# Altium footprint library moded_footprint.PcbLib: 177 footprints (part 11 of 12)
Each footprint in its own frame and in the unit in brackets; x right, y up, seen from the top. Pads: shape width x height; smd on the part's side, far side on the other; paste and mask are expansions set on the pad; w line width, h text height; cw(c..) or ccw(c..) is an arc to the next point about the centre after c.
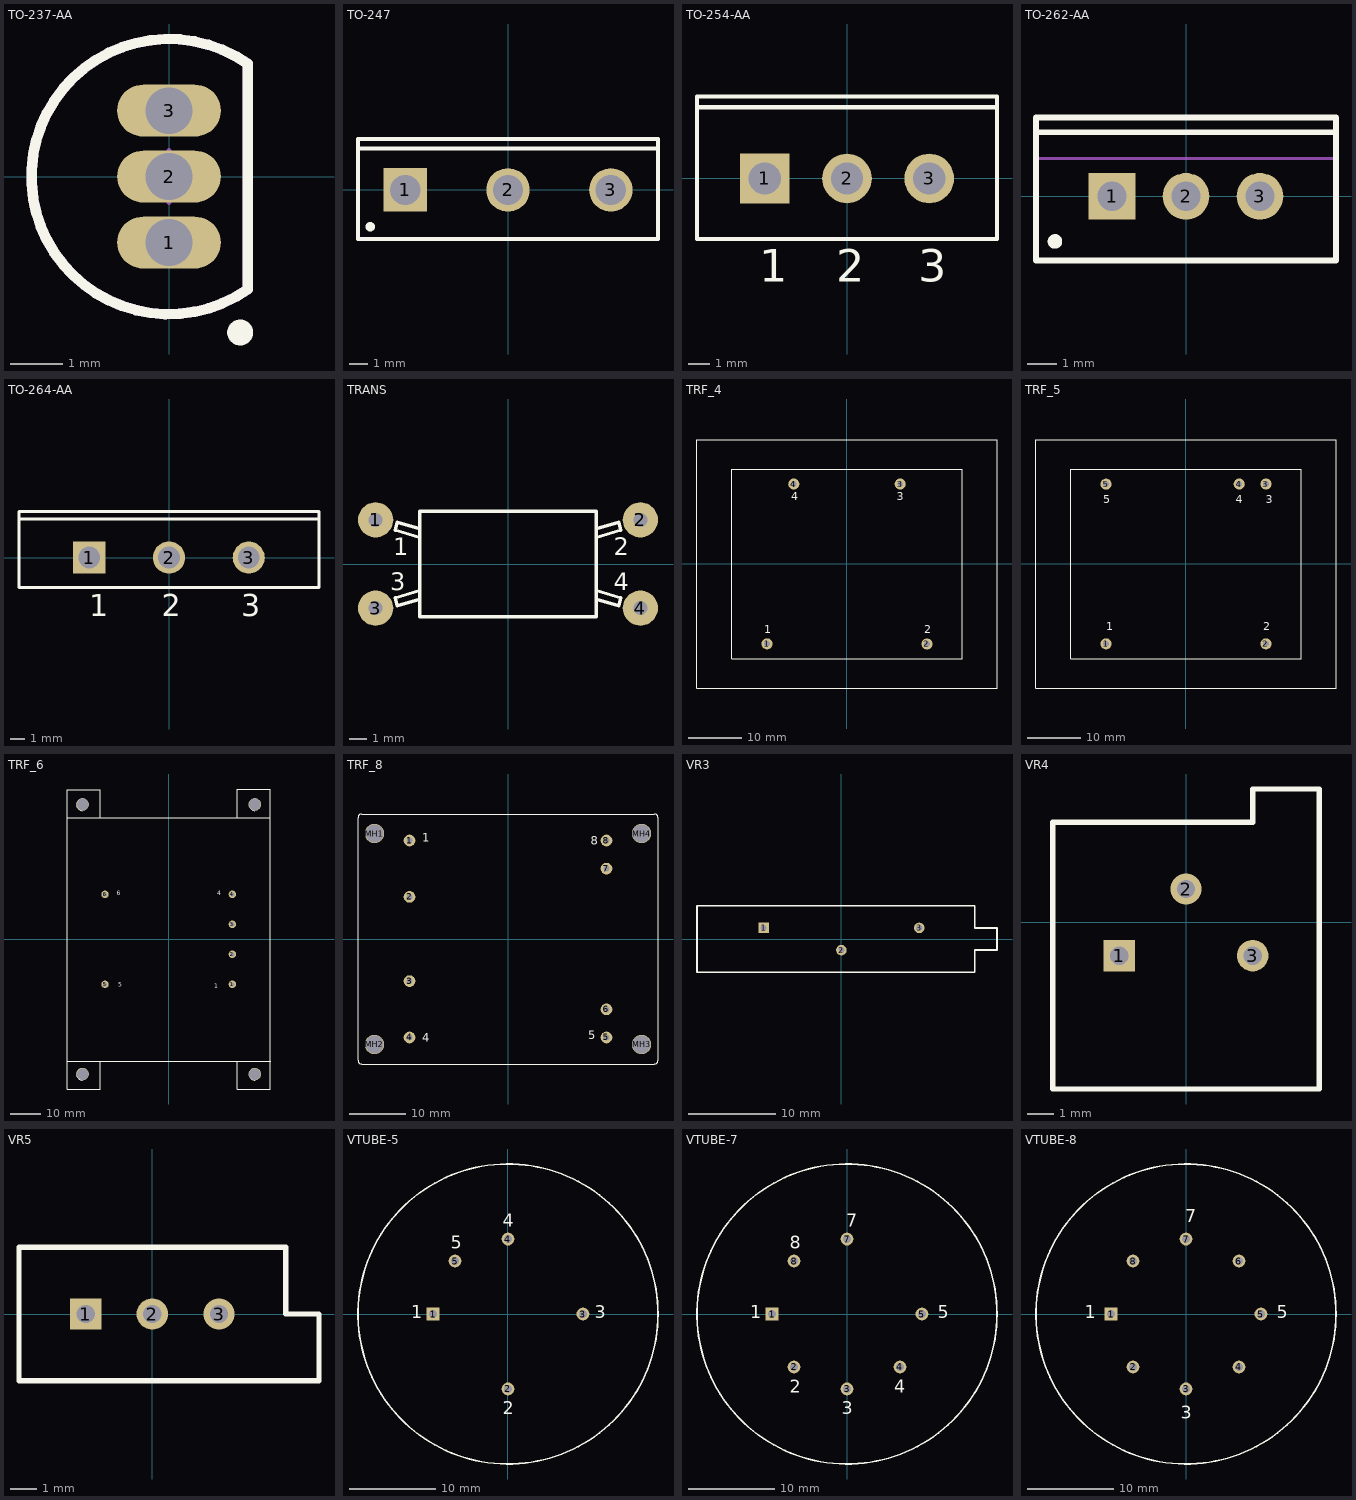
[diagram p10: the footprints below, top view; thin cyan lines are the x and y axes]

## TO-237-AA [mm] "TO, Flat Index; 3 In-Line, Axial Leads; Body Dia. 4.8mm; Lead Dia. 0.56 mm (max)"
height 7.11
pads (3):
  oval 2x1 hole 0.9: 1(0,-1.27) 2(0,0) 3(0,1.27)
Top Overlay:
  circle w0.25: c1.371,-3.003 r0.125
  lines w0.2: 1.52,-2.171 cw(c0,0) 1.52,2.171 1.52,-2.171
Mechanical 13:
  lines w0.2: 1.52,-2.171 cw(c0,0) 1.52,2.171 1.52,-2.171
Mechanical 15:
  lines w0.1: -0.5,0 0.5,0 ; 0,-0.5 0,0.5
3D body: height 7.11, standoff 0, extent -2.651,-2.661 1.52,2.661

## TO-247 [mm] "SIP with Mounting Hole; 3 Leads; Body 20 x 15.6 x 5 mm (typ); Pitch 5.45 mm"
height 24.6
pads (3):
  rect 2.3x2.3 hole 1.6: 1(-5.45,0)
  round 2.3 hole 1.6: 2(0,0) 3(5.45,0)
Top Overlay:
  circle w0.25: c-7.3,-1.95 r0.125
  lines w0.2: -7.95,2.2 7.95,2.2 ; -7.95,-2.6 7.95,-2.6 7.95,2.7 -7.95,2.7 -7.95,-2.6
Mechanical 13:
  lines w0.1: -7.95,-2.6 7.95,-2.6 7.95,2.7 -7.95,2.7 -7.95,-2.6
Mechanical 15:
  lines w0.1: -0.5,0 0.5,0 ; 0,-0.5 0,0.5
3D body: height 24.6, standoff 3.7, extent -7.949,-2.599 7.949,2.699

## TO-254-AA [mm] "TO, Thru-Hole, Vertical, Heatsink Mounted; 3 In-Line Leads; Pitch 3.81 mm"
height 20.3
pads (3):
  rect 2.3x2.3 hole 1.5: 1(-3.81,0)
  round 2.3 hole 1.5: 2(0,0) 3(3.81,0)
Top Overlay:
  lines w0.2: -6.95,3.3 6.95,3.3 ; -6.95,-2.8 -6.95,3.8 6.95,3.8 6.95,-2.8 -6.95,-2.8
  text "3" at 3.31,-4.775 h1.5
  text "2" at -0.5,-4.775 h1.5
  text "1" at -4.06,-4.775 h1.5

## TO-262-AA [mm] "TO, Thru-Hole, Vertical, Heatsink Mounted; 3 In-Line Leads; Pitch 2.54 mm"
height 19.7
pads (3):
  rect 1.6x1.6 hole 1: 1(-2.54,0)
  round 1.6 hole 1: 2(0,0) 3(2.54,0)
Top Overlay:
  circle w0.25: c-4.5,-1.55 r0.125
  lines w0.2: -5.15,2.2 5.15,2.2 ; -5.15,-2.2 -5.15,2.7 5.15,2.7 5.15,-2.2 -5.15,-2.2
Mechanical 13:
  lines w0.1: -5.15,1.3 5.15,1.3 ; -5.15,-2.2 -5.15,2.7 5.15,2.7 5.15,-2.2 -5.15,-2.2
Mechanical 15:
  lines w0.1: -0.5,0 0.5,0 ; 0,-0.5 0,0.5
3D body: height 19.7, standoff 13.7, extent -5.149,1.301 5.149,2.699
3D body: height 13.7, standoff 2.8, extent -5.2,-2.25 5.2,2.75

## TO-264-AA [mm] "SIP with Mounting Hole; 3 Leads; Body 26 x 20 x 5 mm (typ); Pitch 5.45 mm"
height 29
pads (3):
  rect 2.2x2.2 hole 1.5: 1(-5.45,0)
  round 2.2 hole 1.5: 2(0,0) 3(5.45,0)
Top Overlay:
  lines w0.2: -10.25,2.65 10.25,2.65 ; -10.25,-2.05 10.25,-2.05 10.25,3.15 -10.25,3.15 -10.25,-2.05
  text "1" at -5.45,-4.025 h1.5
  text "2" at -0.508,-4.025 h1.5
  text "3" at 4.942,-4.025 h1.5
Mechanical 15:
  lines w0.1: -0.5,0 0.5,0 ; 0,-0.5 0,0.5

## TRANS [mm] "Transformer; 4 Leads"
pads (4):
  round 2 hole 0.8: 1(-7.5,2.5) 2(7.5,2.5) 3(-7.5,-2.5) 4(7.5,-2.5)
Top Overlay:
  lines w0.2: -5,-2 -6.275,-2.375 -6.4,-1.925 -5,-1.5 ; -5,1.5 -6.4,1.925 -6.275,2.375 -5,2 ; 5,-2 6.275,-2.375 6.4,-1.925 5,-1.5 ; 5,1.5 6.4,1.925 6.275,2.375 5,2 ; -5,-3 -5,3 5,3 5,-3 -5,-3
  text "4" at 6,-1.5 h1
  text "3" at -6.675,-1.5 h1
  text "2" at 6,0.5 h1
  text "1" at -6.5,0.5 h1

## TRF_4 [mil] "Transformer; 4 Leads"
pads (4):
  round 82 hole 42: 1(-590.83,-590) 2(590.83,-590.83) 3(393.33,590.83) 4(-393.33,590.83)
Top Overlay:
  lines w8: -1108.33,-916.67 -1108.33,916.67 1108.33,916.67 1108.33,-916.67 -1108.33,-916.67 ; -850,-700 850,-700 850,700 -850,700 -850,-700
  text "3" at 369.17,470 h59.06
  text "4" at -410.83,470 h59.06
  text "2" at 569.17,-510 h59.06
  text "1" at -610.83,-510 h59.06

## TRF_5 [mil] "Transformer; 5 Leads"
pads (5):
  round 82 hole 42: 1(-590.83,-590.42) 2(590.83,-590.42) 3(590.83,590.42) 4(393.33,590.42) 5(-590.83,589.58)
Top Overlay:
  lines w8: -1108.33,-917.08 -1108.33,916.25 1108.33,916.25 1108.33,-917.08 -1108.33,-917.08 ; -850,-700.42 850,-700.42 850,699.58 -850,699.58 -850,-700.42
  text "5" at -610.83,449.58 h59.06
  text "1" at -590.83,-490.42 h59.06
  text "4" at 369.17,449.58 h59.06
  text "3" at 589.17,449.58 h59.06
  text "2" at 569.17,-490.42 h59.06

## TRF_6 [mil] "Transformer; 6 Leads"
pads (10):
  round 98 hole 52: 1(836.67,-590.83) 2(836.67,-196.67) 3(836.67,196.67) 4(836.67,590.83) 5(-836.67,-590.83) 6(-836.67,590.83)
  round 165 hole 152: MH1(-1131.67,-1771.67) MH2(1131.67,-1771.67) MH3(1131.67,1771.67) MH4(-1131.67,1771.67)
Top Overlay:
  lines w8: -1333.33,-1600 1341.67,-1600 ; -1333.33,1600 1333.33,1600 ; -1133.33,-1850 cw(c-1133.33,-1775) -1133.33,-1700 ; -1133.33,1691.67 cw(c-1133.33,1766.67) -1133.33,1841.67 ; -900,-1600 -900,-1966.67 -1333.33,-1966.67 -1333.33,1966.67 -900,1966.67 -900,1600 ; 900,-1600 900,-1966.67 1333.33,-1966.67 1333.33,1966.67 ; 900,1600 900,1975 1333.33,1975 ; 1133.33,-1850 cw(c1133.33,-1775) 1133.33,-1700 ; 1133.33,1691.67 cw(c1133.33,1766.67) 1133.33,1841.67
  text "5" at -660,-620 h59.06
  text "1" at 600,-640 h59.06
  text "4" at 640,580 h59.06
  text "6" at -680,580 h59.06

## TRF_8 [mil] "Transformer; 8 Leads"
pads (12):
  round 82 hole 42: 1(-689.17,689.17) 2(-689.17,295) 3(-689.17,-295) 4(-689.17,-689.17) 5(689.17,-689.17) 6(689.17,-492.5) 7(689.17,492.5) 8(689.17,689.17)
  round 135 hole 125: MH1(-935,738.33) MH2(-935,-738.33) MH3(935,-738.33) MH4(935,738.33)
Top Overlay:
  lines w8: -1050,-850 ccw(c-1025,-850) -1025,-875 1025,-875 ccw(c1025,-850) 1050,-850 1050,850 ccw(c1025,850) 1025,875 -1025,875 ccw(c-1025,850) -1050,850 -1050,-850
  text "4" at -600,-720 h59.06
  text "8" at 580,660 h59.06
  text "5" at 560,-700 h59.06
  text "1" at -600,680 h59.06

## VR3 [mm] "Thru-Hole; 3 Leads"
pads (3):
  rect 1.2x1.2 hole 0.7: 1(-8.89,1.27)
  round 1.2 hole 0.7: 2(0,-1.27) 3(8.89,1.27)
Top Overlay:
  lines w0.2: -16.51,-3.81 -16.51,3.81 15.24,3.81 15.24,1.27 17.78,1.27 17.78,-1.27 15.24,-1.27 15.24,-3.81 -16.51,-3.81

## VR4 [mm] "Thru-Hole; 3 Leads"
pads (3):
  rect 1.2x1.2 hole 0.7: 1(-2.54,-1.27)
  round 1.2 hole 0.7: 2(0,1.27) 3(2.54,-1.27)
Top Overlay:
  lines w0.2: -5.08,-6.35 5.08,-6.35 5.08,5.08 2.54,5.08 2.54,3.81 -5.08,3.81 -5.08,-6.35

## VR5 [mm] "Thru-Hole; 3 Leads"
pads (3):
  rect 1.2x1.2 hole 0.7: 1(-2.54,0)
  round 1.2 hole 0.7: 2(0,0) 3(2.54,0)
Top Overlay:
  lines w0.2: -5.08,-2.54 6.35,-2.54 6.35,0 5.08,0 5.08,2.54 -5.08,2.54 -5.08,-2.54

## VTUBE-5 [mm] "Vacuum Tube; 5 Leads"
pads (5):
  rect 1.5x1.5 hole 0.9: 1(-8.725,0)
  round 1.5 hole 0.9: 2(0,-8.725) 3(8.725,0) 4(0,8.725) 5(-6.17,6.17)
Top Overlay:
  circle w0.2: c0,0 r17.462
  text "1" at -11.265,-0.508 h1.5
  text "2" at -0.597,-11.684 h1.5
  text "4" at -0.597,10.16 h1.5
  text "5" at -6.693,7.62 h1.5
  text "3" at 10.071,-0.508 h1.5

## VTUBE-7 [mm] "Vacuum Tube; 7 Leads"
height 108
pads (7):
  rect 1.5x1.5 hole 0.9: 1(-8.725,0)
  round 1.5 hole 0.9: 2(-6.17,-6.17) 3(0,-8.725) 4(6.17,-6.17) 5(8.725,0) 7(0,8.725) 8(-6.17,6.17)
Top Overlay:
  circle w0.2: c0,0 r17.462
  text "8" at -6.693,7.62 h1.5
  text "7" at -0.089,10.16 h1.5
  text "5" at 10.579,-0.508 h1.5
  text "4" at 5.499,-9.144 h1.5
  text "3" at -0.597,-11.684 h1.5
  text "2" at -6.693,-9.144 h1.5
  text "1" at -11.265,-0.508 h1.5

## VTUBE-8 [mm] "Vacuum Tube; 8 Leads"
height 108
pads (8):
  rect 1.5x1.5 hole 0.9: 1(-8.725,0)
  round 1.5 hole 0.9: 2(-6.17,-6.17) 3(0,-8.725) 4(6.17,-6.17) 5(8.725,0) 6(6.17,6.17) 7(0,8.725) 8(-6.17,6.17)
Top Overlay:
  circle w0.2: c0,0 r17.462
  text "1" at -11.773,-0.508 h1.5
  text "3" at -0.597,-12.192 h1.5
  text "5" at 10.579,-0.508 h1.5
  text "7" at -0.089,10.668 h1.5